# Altium footprint library lib_te.PcbLib: 1 footprints
Each footprint in its own frame and in the unit in brackets; x right, y up, seen from the top. Pads: shape width x height; smd on the part's side, far side on the other; paste and mask are expansions set on the pad; w line width, h text height; cw(c..) or ccw(c..) is an arc to the next point about the centre after c.
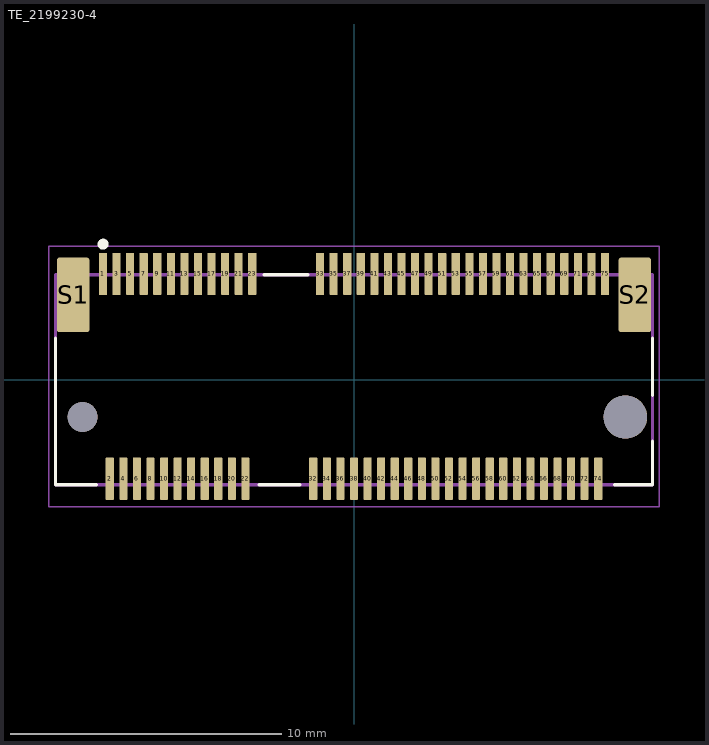
[diagram p0: the footprint, top view; thin cyan lines are the x and y axes]

## TE_2199230-4 [mm]
pads (71):
  rrect15% 0.3x1.55 smd: 1(-9.25,3.9) 2(-9,-3.65) 3(-8.75,3.9) 4(-8.5,-3.65) 5(-8.25,3.9) 6(-8,-3.65) 7(-7.75,3.9) 8(-7.5,-3.65) 9(-7.25,3.9) 10(-7,-3.65) 11(-6.75,3.9) 12(-6.5,-3.65) 13(-6.25,3.9) 14(-6,-3.65) 15(-5.75,3.9) 16(-5.5,-3.65) 17(-5.25,3.9) 18(-5,-3.65) 19(-4.75,3.9) 20(-4.5,-3.65) 21(-4.25,3.9) 22(-4,-3.65) 23(-3.75,3.9) 32(-1.5,-3.65) 33(-1.25,3.9) 34(-1,-3.65) 35(-0.75,3.9) 36(-0.5,-3.65) 37(-0.25,3.9) 38(0,-3.65) 39(0.25,3.9) 40(0.5,-3.65) 41(0.75,3.9) 42(1,-3.65) 43(1.25,3.9) 44(1.5,-3.65) 45(1.75,3.9) 46(2,-3.65) 47(2.25,3.9) 48(2.5,-3.65) 49(2.75,3.9) 50(3,-3.65) 51(3.25,3.9) 52(3.5,-3.65) 53(3.75,3.9) 54(4,-3.65) 55(4.25,3.9) 56(4.5,-3.65) 57(4.75,3.9) 58(5,-3.65) 59(5.25,3.9) 60(5.5,-3.65) 61(5.75,3.9) 62(6,-3.65) 63(6.25,3.9) 64(6.5,-3.65) 65(6.75,3.9) 66(7,-3.65) 67(7.25,3.9) 68(7.5,-3.65) 69(7.75,3.9) 70(8,-3.65) 71(8.25,3.9) 72(8.5,-3.65) 73(8.75,3.9) 74(9,-3.65) 75(9.25,3.9)
  rrect15% 1.2x2.75 smd: S1(-10.35,3.125) S2(10.35,3.125)
  round 1.1 hole 1.1 unplated: ""(-10,-1.375)
  round 1.6 hole 1.6 unplated: ""(10,-1.375)
Top Overlay:
  circle w0.2: c-9.25,4.994 r0.1
  lines w0.127: -11,1.525 -11,-3.875 -9.5,-3.875 ; -3.5,-3.875 -2,-3.875 ; -3.3,3.875 -1.7,3.875 ; 9.6,-3.875 11,-3.875 11,-2.275 ; 11,-0.575 11,1.525
Mechanical 13:
  lines w0.127: -11,-3.875 11,-3.875 11,3.875 -11,3.875 -11,-3.875
Mechanical 15:
  lines w0.05: -11.25,-4.675 11.25,-4.675 11.25,4.925 -11.25,4.925 -11.25,-4.675
3D body "c-2199230-4-b2-3d.stp": height 4.09, standoff -0.62, extent -10.95,-4.2 10.95,4.5